# EAGLE library part B8B-PH-* (library jst-ph)
Wire-to-Board 2.0mm pitch top mount connector Source: http://www.jst-mfg.com/product/pdf/jpn/PH.pdf http://www.jst-mfg.com/product/detail.php?series=199
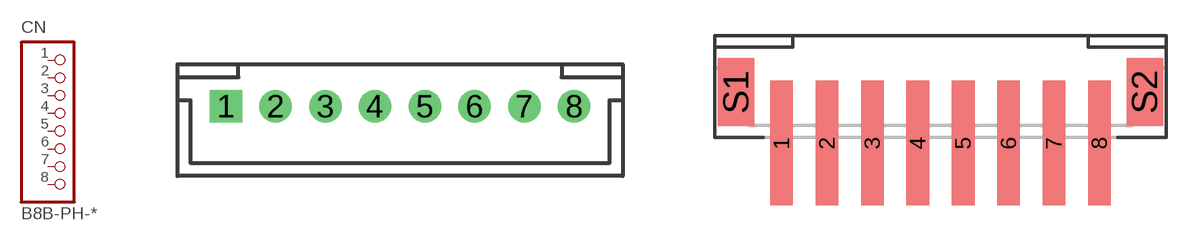
[diagram p2: symbol with the pads of B8B-PH-K-S; footprints B8B-PH-K-S, B8B-PH-SM4-TB]

Designator prefix CN

## B8B-PH-K-S  [B8B-PH-K-S]
1  1  pas
2  2  pas
3  3  pas
4  4  pas
5  5  pas
6  6  pas
7  7  pas
8  8  pas

## B8B-PH-SM4-TB  [B8B-PH-SM4-TB]
Pads as for B8B-PH-K-S

## Footprint B8B-PH-K-S (pad centres in mm)
drill 0.8 square: 1 -7,0
drill 0.8: 2 -5,0; 3 -3,0; 4 -1,0; 5 1,0; 6 3,0; 7 5,0; 8 7,0

## Footprint B8B-PH-SM4-TB (pad centres in mm)
smd 1 x 5.5: 1 -7,-3.05; 2 -5,-3.05; 3 -3,-3.05; 4 -1,-3.05; 5 1,-3.05; 6 3,-3.05; 7 5,-3.05; 8 7,-3.05
smd 1.6 x 3: S1 -9,-0.8; S2 9,-0.8